# EAGLE library part SK_S7G2_HEADER (library 3D_MIG_Controller)
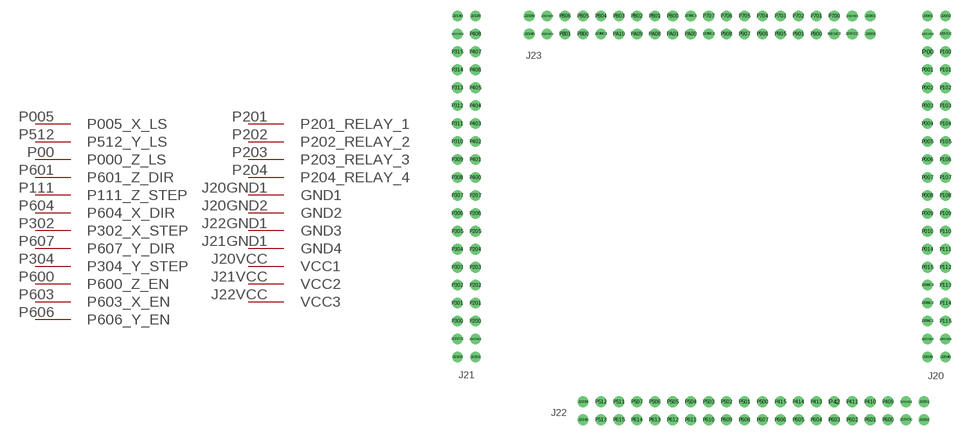
[diagram p21: symbol with the pads of SK_S7G2; footprint SK_S7G2]

Designator prefix -

## SK_S7G2_HEADER  [SK_S7G2]
J20GND1  GND1
J20GND2  GND2
J20VCC  VCC1
J21GND1  GND4
J21VCC  VCC2
J22GND1  GND3
J22VCC  VCC3
P00  P000_Z_LS
P005  P005_X_LS
P111  P111_Z_STEP
P201  P201_RELAY_1
P202  P202_RELAY_2
P203  P203_RELAY_3
P204  P204_RELAY_4
P302  P302_X_STEP
P304  P304_Y_STEP
P512  P512_Y_LS
P600  P600_Z_EN
P601  P601_Z_DIR
P603  P603_X_EN
P604  P604_X_DIR
P606  P606_Y_EN
P607  P607_Y_DIR

## Footprint SK_S7G2 (pad centres in mm)
drill 1: J20GND1 69.088,-45.72; J20GND2 66.548,-45.72; J20GND3 66.548,-2.54; J20NC1 66.548,-43.18; J20NC2 66.548,-40.64; J20NC3 66.548,-38.1; J20VCC 69.088,-2.54; J21GND1 2.54,-45.72; J21GND2 0,-2.54; J21VCC 0,-45.72; J22GND1 63.5,-54.61; J22VCC 63.5,-57.15; J23GND1 55.88,0; J23GND2 12.7,0; J23GND3 12.7,-2.54; J23NC1 33.02,0; J23NC2 35.56,-2.54; J23NC3 20.32,-2.54; J23VCC 55.88,-2.54; J2001 66.548,0; J2002 69.088,0; J2039 66.548,-48.26; J2040 69.088,-48.26; J2101 2.54,-48.26; J2102 0,-48.26; J2139 2.54,0; J2140 0,0; J2201 66.04,-54.61; J2202 66.04,-57.15; J2239 17.78,-54.61; J2240 17.78,-57.15; J2301 58.42,0; J2339 10.16,0; J2340 10.16,-2.54; J3202 58.42,-2.54; P00 66.548,-5.08; P001 66.548,-7.62; P002 66.548,-10.16; P003 66.548,-12.7; P004 66.548,-15.24; P005 66.548,-17.78; P006 66.548,-20.32; P007 66.548,-22.86; P008 66.548,-25.4; P009 66.548,-27.94; P010 66.548,-30.48; P014 66.548,-33.02; P015 66.548,-35.56; P42 53.34,-54.61; P100 69.088,-5.08; P101 69.088,-7.62; P102 69.088,-10.16; P103 69.088,-12.7; P104 69.088,-15.24; P105 69.088,-17.78; P106 69.088,-20.32; P107 69.088,-22.86; P108 69.088,-25.4; P109 69.088,-27.94; P110 69.088,-30.48; P111 69.088,-33.02; P112 69.088,-35.56; P113 69.088,-38.1; P114 69.088,-40.64; P115 69.088,-43.18; P200 2.54,-43.18; P201 2.54,-40.64; P202 2.54,-38.1; P203 2.54,-35.56; P204 2.54,-33.02; P205 2.54,-30.48; P206 2.54,-27.94; P207 2.54,-25.4; P300 0,-43.18; P301 0,-40.64; P302 0,-38.1; P303 0,-35.56; P304 0,-33.02; P305 0,-30.48; P306 0,-27.94; P307 0,-25.4; P308 0,-22.86; P309 0,-20.32; P310 0,-17.78; P311 0,-15.24; P312 0,-12.7; P313 0,-10.16; P314 0,-7.62; P315 0,-5.08; P400 2.54,-22.86; P401 2.54,-20.32; P402 2.54,-17.78; P403 2.54,-15.24; P404 2.54,-12.7; P405 2.54,-10.16; P406 2.54,-7.62; P407 2.54,-5.08; P408 2.54,-2.54; P409 60.96,-54.61; P410 58.42,-54.61; P411 55.88,-54.61; P413 50.8,-54.61; P414 48.26,-54.61; P415 45.72,-54.61; P500 43.18,-54.61; P501 40.64,-54.61; P502 38.1,-54.61; P503 35.56,-54.61; P504 33.02,-54.61; P505 30.48,-54.61; P506 27.94,-54.61; P507 25.4,-54.61; P511 22.86,-54.61; P512 20.32,-54.61; P513 20.32,-57.15; P600 60.96,-57.15; P601 58.42,-57.15; P602 55.88,-57.15; P603 53.34,-57.15; P604 50.8,-57.15; P605 48.26,-57.15; P606 45.72,-57.15; P607 43.18,-57.15; P608 40.64,-57.15; P609 38.1,-57.15; P610 35.56,-57.15; P611 33.02,-57.15; P612 30.48,-57.15; P613 27.94,-57.15; P614 25.4,-57.15; P615 22.86,-57.15; P700 53.34,0; P701 50.8,0; P702 48.26,0; P703 45.72,0; P704 43.18,0; P705 40.64,0; P706 38.1,0; P707 35.56,0; P800 30.48,0; P801 27.94,0; P802 25.4,0; P803 22.86,0; P804 20.32,0; P805 17.78,0; P806 15.24,0; P900 50.8,-2.54; P901 48.26,-2.54; P905 45.72,-2.54; P906 43.18,-2.54; P907 40.64,-2.54; P908 38.1,-2.54; PA00 33.02,-2.54; PA01 30.48,-2.54; PA08 27.94,-2.54; PA09 25.4,-2.54; PA10 22.86,-2.54; PB00 17.78,-2.54; PB01 15.24,-2.54; RESET 53.34,-2.54